# EAGLE library part DS1337 (library jcole)
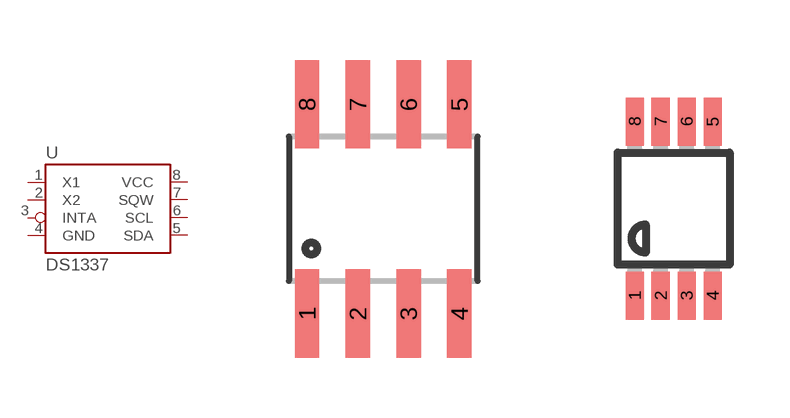
[diagram p1: symbol with the pads of SO08; footprints SO08, UMAX8]

Designator prefix -

## DS1337SO8  [SO08]
1  X1
2  X2
3  INTA
4  GND
5  SDA
6  SCL
7  SQW
8  VCC

## DS1337UMAX  [UMAX8]
Pads as for SO08

## Footprint SO08 (pad centres in mm)
Small Outline Package Fits JEDEC packages (narrow SOIC-8)
smd 0.61 x 2.21: 1 -1.905,-2.616; 2 -0.635,-2.616; 3 0.635,-2.616; 4 1.905,-2.616; 5 1.905,2.616; 6 0.635,2.616; 7 -0.635,2.616; 8 -1.905,2.616

## Footprint UMAX8 (pad centres in mm)
micro MAX Package
smd 0.45 x 1.2: 1 -0.975,-2.175; 2 -0.325,-2.175; 3 0.325,-2.175; 4 0.975,-2.175; 5 0.975,2.175; 6 0.325,2.175; 7 -0.325,2.175; 8 -0.975,2.175